# Altium schematic symbol library nrf52832_ciaa.SCHLIB: 10 symbols
Pins are listed as number, name and electrical type; pins without a type are passive.

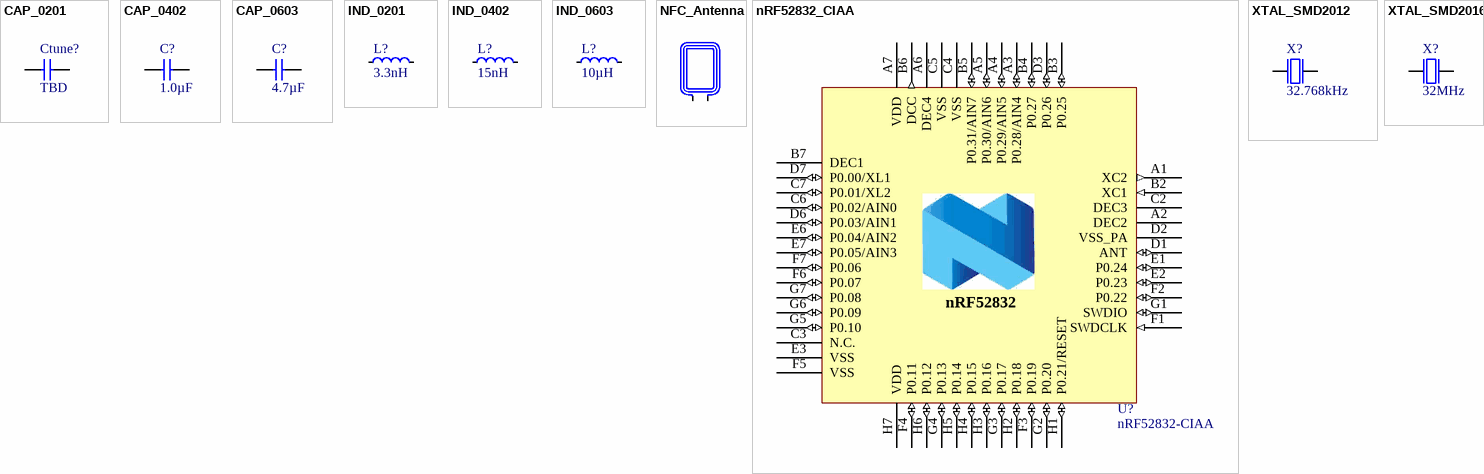
[diagram p0: symbols CAP_0201 to XTAL_SMD2016]

## CAP_0201
designator Ctune?, comment TBD
Capacitor, NP0, ±5%; Part Number: C0201-TBD; Note: Chip Cap; Artikkelnr Noca: N.A.; Manufacturer: *; Manufacturer Part Number: *; Datasheet: *; Footprint Doc: 0201; LatestRevisionDate: 2014-11-13; Pin Count: 2; Publisher: Nordic Semiconductor; Published: 2014-11-13; Value: TBD; Supplier: *; Supplier part number: *; 2nd source Supplier: *; 2nd source part number: *; Artikkelnr Simpro: N.A.
footprint CAPC0603X03L
pins: 1, 2

## CAP_0402
designator C?, comment 1.0µF
Capacitor, X5R, ±5%; Part Number: C0402-1µ0; Note: 6.3V; Artikkelnr Noca: 20039235; Artikkelnr Simpro: N.A.; Manufacturer: *; Manufacturer Part Number: *; Datasheet: *; LatestRevisionDate: 2009-11-23; Pin Count: 2; Publisher: Nordic Semiconductor; Published: 2009-05-08; Value: 1.0µF; Supplier: *; Supplier part number: *; 2nd source Supplier: *; 2nd source part number: *; Footprint Doc: 0402
footprint CAPC1005X04L
pins: 1, 2

## CAP_0603
designator C?, comment 4.7µF
Capacitor, X5R, ±10%; Part Number: C0603-4µ7; Note: 6.3V; Artikkelnr Noca: 20069060; Artikkelnr Simpro: N.A.; Manufacturer: *; Manufacturer Part Number: *; Datasheet: *; LatestRevisionDate: 2009-11-23; Pin Count: 2; Publisher: Nordic Semiconductor; Published: 2009-05-08; Value: 4.7µF; Supplier: *; Supplier part number: *; 2nd source Supplier: *; 2nd source part number: *; Footprint Doc: 0603
footprint CAPC1608X06L
pins: 1, 2

## IND_0201
designator L?, comment 3.3nH
High frequency chip inductor ±5%; Part Number: L0201-3n3; Artikkelnr Noca: N.A.; Manufacturer: *; Manufacturer Part Number: *; Datasheet: *; LatestRevisionDate: 2013-04-10; Pin Count: 2; Publisher: Nordic Semiconductor; Published: 2013-04-10; Value: 3.3nH; Note: High frequency chip inductor ±5%; Supplier: *; Supplier part number: *; 2nd source Supplier: *; 2nd source part number: *; Footprint Doc: 0201; Artikkelnr Simpro: N.A.
footprint INDC0603X03L
pins: 1, 2

## IND_0402
designator L?, comment 15nH
High frequency chip inductor ±10%; Part Number: L0402-15n; Manufacturer: Taiyo Yuden; Manufacturer Part Number: HK100515NJ-T; 2nd source part number: 658-1328; Artikkelnr Noca: 33029323; Artikkelnr Simpro: N.A.; LatestRevisionDate: 2012-09-19; Pin Count: 2; Publisher: Nordic Semiconductor; Published: 2010-07-12; Value: 15nH; Note: High frequency chip inductor ±10%; Supplier: Digi-Key; Datasheet: http://www.yuden.co.jp/productdata/catalog/en/mlci04_e.pdf; Supplier part number: 587-1521-1-ND; 2nd source Supplier: Farnell; Footprint Doc: 0402
footprint INDC1005X04L
pins: 1, 2

## IND_0603
designator L?, comment 10µH
Chip inductor, IDC,min = 50 mA, ±20%; Part Number: L0603-10µ; Manufacturer: Taiyo Yuden; Manufacturer Part Number: LBMF1608T100K; 2nd source part number: 178-6105; Note: LBMF1608T100K 10µH 80mA 0603; Artikkelnr Noca: 33029314; Artikkelnr Simpro: N.A.; Datasheet: http://www.yuden.co.jp/ut/product/pdf/elb2_e.pdf; LatestRevisionDate: 2012-09-19; Pin Count: 2; Publisher: Nordic Semiconductor; Published: 2010-02-24; Value: 10µH; Supplier: Digi-Key; Supplier part number: 587-1714-1-ND; 2nd source Supplier: Farnell; Footprint Doc: 0603
footprint INDC1608X06L
pins: 1, 2

## NFC_Antenna
designator A?, comment NFC Antenna  (value not drawn)  (no BOM)
Part Number: NFC_ANT_TP; Artikkelnr Noca: N.A.; Manufacturer: *; Manufacturer Part Number: *; Datasheet: *; Footprint Doc: TP_2x1mm_TH; LatestRevisionDate: 2016-02-23; Pin Count: 2; Publisher: Nordic Semiconductor; Published: 2016-02-23; Value: NFC Antenna; Note: *; Supplier: *; Supplier part number: *; 2nd source Supplier: *; 2nd source part number: *; Artikkelnr Simpro: N.A.
footprint TP_2x1mm_TH
pins: 1, 2

## nRF52832_CIAA
designator U?, comment nRF52832-CIAA
Multi-protocol Bluetooth Low Energy, ANT and 2.4GHz proprietary system-on-chip; Manufacturer: Nordic Semiconductor; Artikkelnr Noca: N.A.; Part Number: nRF52832-CIAA; Manufacturer Part Number: nRF52832-CIAA; Datasheet: *; LatestRevisionDate: 2016-03-11; Pin Count: 54; Publisher: Nordic Semiconductor; Published: 2016-03-11; Value: nRF52832-CIAA; Note: *; Supplier: Nordic Semiconductor; Supplier part number: *; 2nd source Supplier: *; 2nd source part number: *; Footprint Doc: WLCSP_C50; Artikkelnr Simpro: N.A.; Part number IPS: N.A.
footprint BGA50C40P7X8_295X322X50
pins: A1 XC2 (out), A2 DEC2 (power), A3 P0.28/AIN4 (io), A4 P0.29/AIN5 (io), A5 P0.30/AIN6 (io), A6 DEC4 (power), A7 VDD (power), B2 XC1 (in), B3 P0.25 (io), B4 P0.27 (io), B5 P0.31/AIN7 (io), B6 DCC (out), B7 DEC1 (power), C2 DEC3 (power), C3 N.C. (power), C4 VSS (power), C5 VSS (power), C6 P0.02/AIN0 (io), C7 P0.01/XL2 (io), D1 ANT (io), D2 VSS_PA (power), D3 P0.26 (io), D6 P0.03/AIN1 (io), D7 P0.00/XL1 (io), E1 P0.24 (io), E2 P0.23 (io), E3 VSS (power), E6 P0.04/AIN2 (io), E7 P0.05/AIN3 (io), F1 SWDCLK (in), F2 P0.22 (io), F3 P0.19 (io), F4 P0.11 (io), F5 VSS (power), F6 P0.07 (io), F7 P0.06 (io), G1 SWDIO (io), G2 P0.20 (io), G3 P0.17 (io), G4 P0.13 (io), G5 P0.10 (io), G6 P0.09 (io), G7 P0.08 (io), H1 P0.21/RESET (io), H2 P0.18 (io), H3 P0.16 (io), H4 P0.15 (io), H5 P0.14 (io), H6 P0.12 (io), H7 VDD (power)
text: nRF52832

## XTAL_SMD2012
designator X?, comment 32.768kHz
XTAL SMD 2012, 32.768kHz, Cl=9pF, Total Tol: ±50ppm; Part Number: XTAL_SMD2012_32.768kHz_9pF_Seiko; Manufacturer: Seiko; Manufacturer Part Number: SC20S-9.0PF20PPM; Note: XTAL SMD 32.768kHz, 2012; Artikkelnr Noca: N.A.; Datasheet: http://www.sii.co.jp/en/quartz/files/2013/03/file_PRODUCT_MASTER_50811_GRAPHIC03.pdf; LatestRevisionDate: 2015-10-15; Pin Count: 2; Publisher: Nordic Semiconductor; Published: 2015-10-15; Value: 32.768kHz; Supplier: *; Supplier part number: *; 2nd source Supplier: *; 2nd source part number: *; Footprint Doc: XTAL_2012; Artikkelnr Simpro: N.A.
footprint XTAL_2012
pins: 1 inp, 2 out

## XTAL_SMD2016
designator X?, comment 32MHz
XTAL SMD 2016, 32MHz, Cl=8pF, Total Tol: ±40ppm; Part Number: XTAL_SMD2016_32MHz_8pF_Epson; Manufacturer: Epson Toyocom; Manufacturer Part Number: Q22FA12800025; Note: XTAL SMD 32.000MHz; Artikkelnr Noca: N.A.; Datasheet: http://www.epsondevice.com/docs/qd/en/DownloadServlet?id=ID000449; LatestRevisionDate: 2014-11-27; Pin Count: 4; Publisher: Nordic Semiconductor; Published: 2012-03-09; Value: 32MHz; Supplier: Farnell; Supplier part number: 171-2806; 2nd source Supplier: *; 2nd source part number: *; Footprint Doc: XTAL_2016; Artikkelnr Simpro: N.A.
footprint BT-XTAL_2016
pins: 1 inp, 2 GND hidden to GND, 3 out, 4 GND hidden to GND